# Altium footprint library PcbLib.PcbLib: 67 footprints (part 3 of 5)
Each footprint in its own frame and in the unit in brackets; x right, y up, seen from the top. Pads: shape width x height; smd on the part's side, far side on the other; paste and mask are expansions set on the pad; w line width, h text height; cw(c..) or ccw(c..) is an arc to the next point about the centre after c.
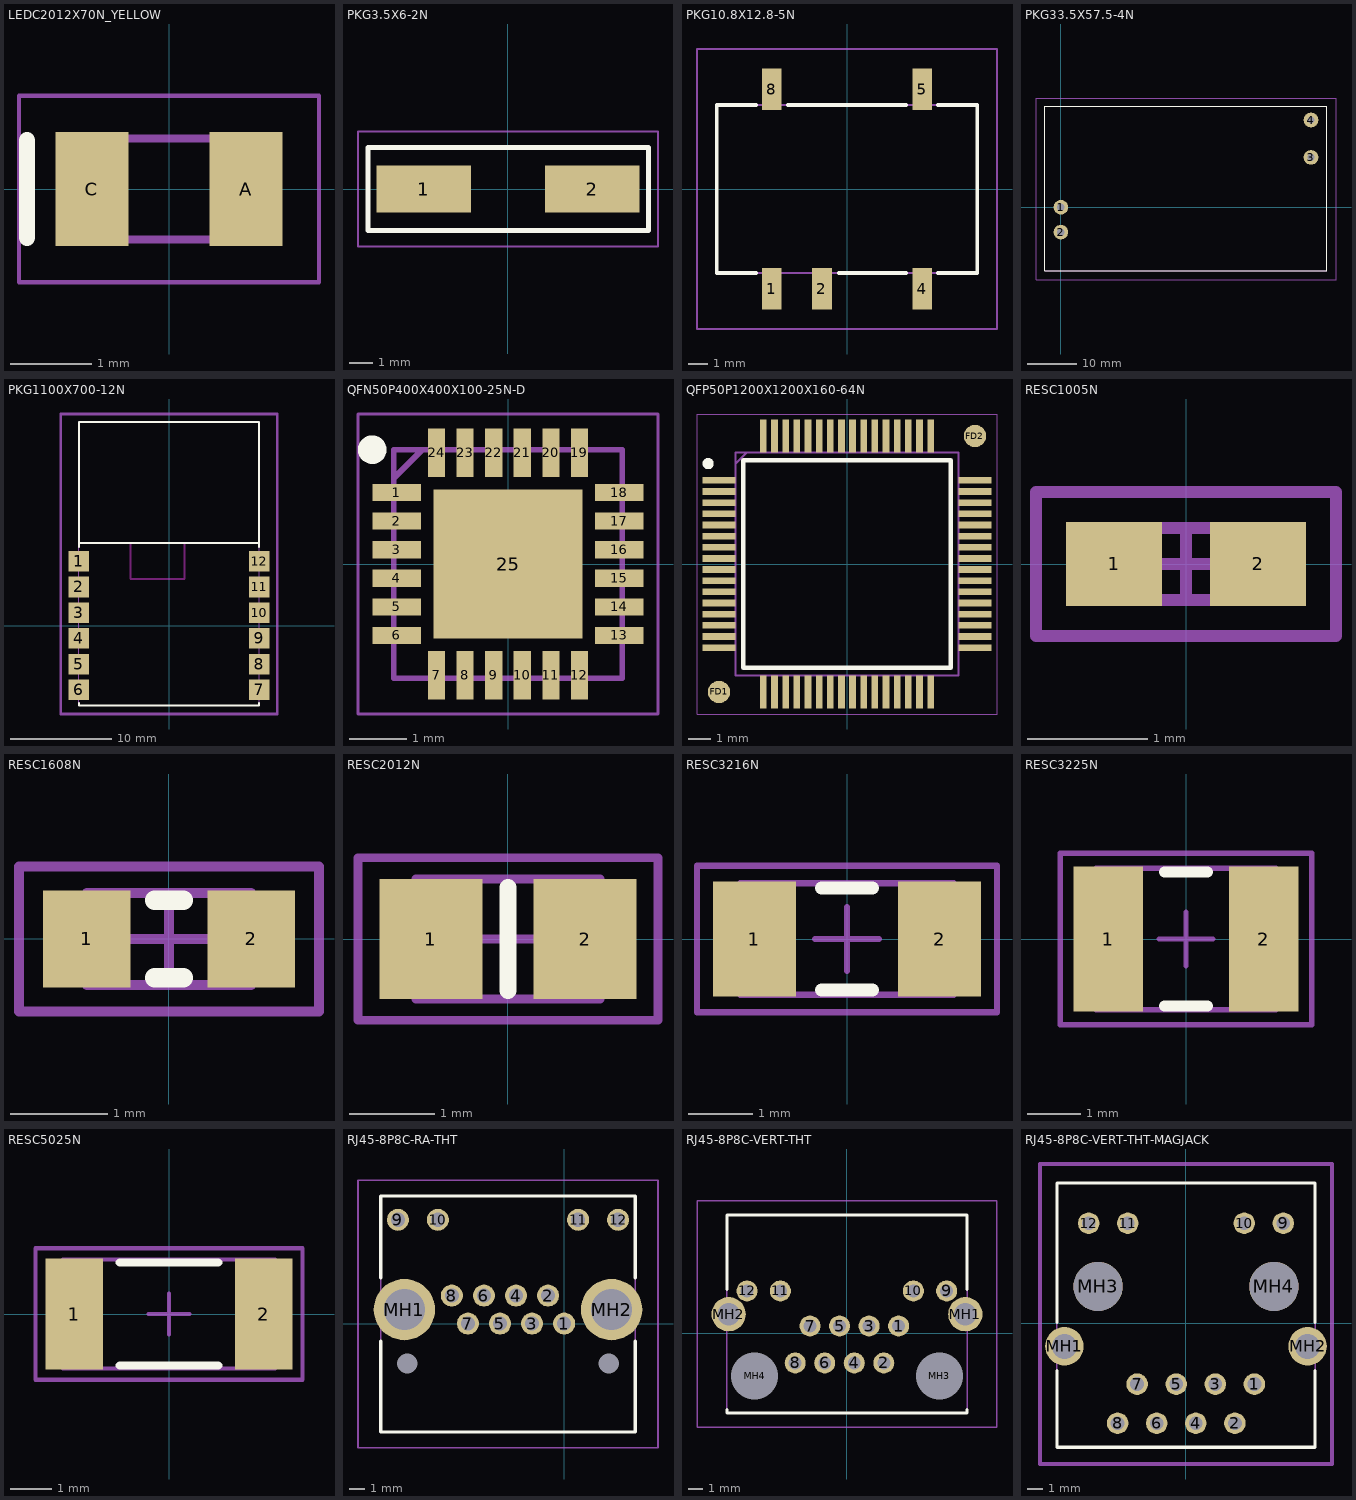
[diagram p2: the footprints below, top view; thin cyan lines are the x and y axes]

## LEDC2012X70N_YELLOW [mm]
pads (2):
  rect 0.9x1.4 smd: A(0.95,0) C(-0.95,0)
Top Overlay:
  lines w0.2: -1.75,-0.6 -1.75,0.6
Mechanical 13:
  lines w0.1: -1,0.208 -0.583,0.625 ; -1,-0.625 1,-0.625 1,0.625 -1,0.625 -1,-0.625
Mechanical 15:
  lines w0.05: -1.85,-1.15 1.85,-1.15 1.85,1.15 -1.85,1.15 -1.85,-1.15
3D body "LED-0805-Yellow.step": height 0.8, standoff -0.01, extent -1.01,-0.625 1.01,0.625

## PKG3.5X6-2N [mm]
pads (2):
  rect 4x2 smd: 1(-3.55,0) 2(3.55,0)
Top Overlay:
  lines w0.2: -5.9,-1.75 5.925,-1.75 5.925,1.75 -5.9,1.75 -5.9,-1.75
Mechanical 13:
  lines w0.1: -5.9,-1.75 5.925,-1.75 5.925,1.75 -5.9,1.75 -5.9,-1.75
Mechanical 15:
  lines w0.1: -6.325,-2.425 6.325,-2.425 6.325,2.425 -6.325,2.425 -6.325,-2.425
3D body "FSMSMTR.stp": height 4.41, standoff -0.01, extent -4.985,-1.75 4.985,1.75

## PKG10.8X12.8-5N [mm] "DC/DC Converters 24Vin 5Vout 2W 3kV"
height 6.9
pads (5):
  rect 1x2.1 smd: 1(-3.81,-5.05) 2(-1.27,-5.05) 4(3.81,-5.05) 5(3.81,5.05) 8(-3.81,5.05)
Top Overlay:
  lines w0.2: -4.6,-4.25 -6.6,-4.25 -6.6,4.25 -4.6,4.25 ; -3,4.25 3,4.25 ; -0.4,-4.25 3,-4.25 ; 4.6,-4.25 6.6,-4.25 6.6,4.25 4.6,4.25
Mechanical 13:
  lines w0.1: -6.6,-4.25 -6.6,4.25 6.6,4.25 6.6,-4.25 -6.6,-4.25
Mechanical 15:
  lines w0.1: -7.6,-7.1 -7.6,7.1 7.6,7.1 7.6,-7.1 -7.6,-7.1
3D body "1769405341.stp": height 7.25, standoff 0, extent -6.6,-5.702 6.6,5.702

## PKG33.5X57.5-4N [mm] "50W Step Down Mini Power Supply Module Converter"
height 28
pads (4):
  round 3 hole 1.5: 1(0,0) 2(0,-5.08) 3(51,10.16) 4(51,17.78)
Top Overlay:
  lines w0.2: -3.25,-12.94 -3.25,20.56 54.25,20.56 54.25,-12.94 -3.25,-12.94
Mechanical 13:
  lines w0.1: -3.25,-12.94 -3.25,20.56 54.25,20.56 54.25,-12.94 -3.25,-12.94
Mechanical 15:
  lines w0.254: -5.075,-14.825 56.1,-14.825 56.1,22.25 -5.075,22.25 -5.075,-14.825
3D body "User Library-hilink40M-1.STEP": height 22.51, standoff -5, extent -3.25,-12.94 54.25,20.56

## PKG1100X700-12N [mil]
pads (12):
  rect 80x80 smd: 1(-350,250) 2(-350,150) 3(-350,50) 4(-350,-50) 5(-350,-150) 6(-350,-250) 7(350,-250) 8(350,-150) 9(350,-50) 10(350,50) 11(350,150) 12(350,250)
Top Overlay:
  lines w7.87: -350,-301 -350,-310 350,-310 350,-301 ; -350,305 -350,320 ; 350,305 350,320 ; -350,320 -350,790 350,790 350,320 ; -350,320 350,320
Keep-Out Layer:
  lines w7.87: -150,180 -150,320 60,320 60,180 -150,180
Mechanical 13:
  lines w3.94: -350,-310 350,-310 350,790 -350,790 -350,-310
Mechanical 15:
  lines w10: -420.77,-343.5 -420.77,821.85 420.77,821.85 420.77,-343.5 -420.77,-343.5
3D body "MRF24J40MA-I_RM.stp": height 67.98, standoff 0.66, extent -350,-310 350,790

## QFN50P400X400X100-25N-D [mm]
pads (25):
  rect 0.85x0.3 smd: 1(-1.95,1.25) 2(-1.95,0.75) 3(-1.95,0.25) 4(-1.95,-0.25) 5(-1.95,-0.75) 6(-1.95,-1.25) 13(1.95,-1.25) 14(1.95,-0.75) 15(1.95,-0.25) 16(1.95,0.25) 17(1.95,0.75) 18(1.95,1.25)
  rect 0.3x0.85 smd: 7(-1.25,-1.95) 8(-0.75,-1.95) 9(-0.25,-1.95) 10(0.25,-1.95) 11(0.75,-1.95) 12(1.25,-1.95) 19(1.25,1.95) 20(0.75,1.95) 21(0.25,1.95) 22(-0.25,1.95) 23(-0.75,1.95) 24(-1.25,1.95)
  rect 2.6x2.6 smd: 25(0,0)
Top Overlay:
  circle w0.25: c-2.375,2 r0.125
Top Solder:
  rectangle: -2.475,-1.5 2.475,1.5
  rectangle: -1.475,-2.475 1.5,2.45
Mechanical 13:
  lines w0.1: -2,1.5 -1.5,2 ; -2,-2 -2,2 2,2 2,-2 -2,-2
Mechanical 15:
  lines w0.05: -2.625,-2.625 -2.625,2.625 2.625,2.625 2.625,-2.625 -2.625,-2.625
3D body "LAN8742A-CZ-TR.stp": height 1, standoff 0, extent -2.05,-2.05 2.05,2.05

## QFP50P1200X1200X160-64N [mm]
pads (66):
  rect 1.475x0.3 smd: 1(-5.738,3.75) 2(-5.738,3.25) 3(-5.738,2.75) 4(-5.738,2.25) 5(-5.738,1.75) 6(-5.738,1.25) 7(-5.738,0.75) 8(-5.738,0.25) 9(-5.738,-0.25) 10(-5.738,-0.75) 11(-5.738,-1.25) 12(-5.738,-1.75) 13(-5.738,-2.25) 14(-5.738,-2.75) 15(-5.738,-3.25) 16(-5.738,-3.75) 33(5.738,-3.75) 34(5.738,-3.25) 35(5.738,-2.75) 36(5.738,-2.25) 37(5.738,-1.75) 38(5.738,-1.25) 39(5.738,-0.75) 40(5.738,-0.25) 41(5.738,0.25) 42(5.738,0.75) 43(5.738,1.25) 44(5.738,1.75) 45(5.738,2.25) 46(5.738,2.75) 47(5.738,3.25) 48(5.738,3.75)
  rect 0.3x1.475 smd: 17(-3.75,-5.738) 18(-3.25,-5.738) 19(-2.75,-5.738) 20(-2.25,-5.738) 21(-1.75,-5.738) 22(-1.25,-5.738) 23(-0.75,-5.738) 24(-0.25,-5.738) 25(0.25,-5.738) 26(0.75,-5.738) 27(1.25,-5.738) 28(1.75,-5.738) 29(2.25,-5.738) 30(2.75,-5.738) 31(3.25,-5.738) 32(3.75,-5.738) 49(3.75,5.738) 50(3.25,5.738) 51(2.75,5.738) 52(2.25,5.738) 53(1.75,5.738) 54(1.25,5.738) 55(0.75,5.738) 56(0.25,5.738) 57(-0.25,5.738) 58(-0.75,5.738) 59(-1.25,5.738) 60(-1.75,5.738) 61(-2.25,5.738) 62(-2.75,5.738) 63(-3.25,5.738) 64(-3.75,5.738)
  round 1 smd mask+0.5: FD1(-5.738,-5.738) FD2(5.738,5.738)
Top Overlay:
  circle w0.25: c-6.225,4.5 r0.125
  lines w0.2: -4.65,-4.65 -4.65,4.65 4.65,4.65 4.65,-4.65 -4.65,-4.65
Top Solder:
  rectangle: -4,4.9 4,6.575
  rectangle: 4.9,-4 6.575,4
  rectangle: -4,-6.575 4,-4.9
  rectangle: -6.575,-4 -4.9,4
Mechanical 13:
  lines w0.1: -5,4.5 -4.5,5 ; -5,-5 -5,5 5,5 5,-5 -5,-5
Mechanical 15:
  lines w0.05: -6.725,-6.725 -6.725,6.725 6.725,6.725 6.725,-6.725 -6.725,-6.725
3D body "STM32H563RIT6.stp": height 1.6, standoff 0, extent -6,-6 6,6

## RESC1005N [mm] "Chip Resistor, Body 1.1x0.5mm, IPC Medium Density"
height 0.4
pads (2):
  rect 0.8x0.7 smd: 1(-0.6,0) 2(0.6,0)
Mechanical 13:
  lines w0.1: -0.55,-0.3 0.55,-0.3 0.55,0.3 -0.55,0.3 -0.55,-0.3
Mechanical 15:
  lines w0.1: -0.3,0 0.3,0 ; 0,-0.3 0,0.3 ; -1.25,-0.6 1.25,-0.6 1.25,0.6 -1.25,0.6 -1.25,-0.6
3D body "RC0402.stp": height 0.35, standoff 0, extent -0.5,-0.25 0.5,0.25

## RESC1608N [mm] "Chip Resistor, Body 1.6x0.8mm, IPC Medium Density"
height 0.6
pads (2):
  rect 0.9x1 smd: 1(-0.85,0) 2(0.85,0)
Top Overlay:
  lines w0.2: -0.15,-0.4 0.15,-0.4 ; -0.15,0.4 0.15,0.4
Mechanical 13:
  lines w0.1: -0.85,-0.475 -0.85,0.475 0.85,0.475 0.85,-0.475 -0.85,-0.475
Mechanical 15:
  lines w0.1: -0.475,0 0.475,0 ; 0,-0.475 0,0.475 ; -1.55,-0.75 -1.55,0.75 1.55,0.75 1.55,-0.75 -1.55,-0.75
3D body "RC0603.stp": height 0.45, standoff 0, extent -0.8,-0.4 0.8,0.4

## RESC2012N [mm] "Chip Resistor, Body 2.0x1.3mm, IPC Medium Density"
height 0.65
pads (2):
  rect 1.2x1.4 smd: 1(-0.9,0) 2(0.9,0)
Top Overlay:
  lines w0.2: 0,-0.6 0,0.6
Mechanical 13:
  lines w0.1: -1.075,-0.7 1.075,-0.7 1.075,0.7 -1.075,0.7 -1.075,-0.7
Mechanical 15:
  lines w0.1: -0.5,0 0.5,0 ; 0,-0.5 0,0.5 ; -1.75,-0.95 1.75,-0.95 1.75,0.95 -1.75,0.95 -1.75,-0.95
3D body "RC0805.stp": height 0.5, standoff 0, extent -1,-0.625 1,0.625

## RESC3216N [mm] "Chip Resistor, Body 3.2x1.6mm, IPC Medium Density"
height 0.71
pads (2):
  rect 1.3x1.8 smd: 1(-1.45,0) 2(1.45,0)
Top Overlay:
  lines w0.2: -0.4,-0.8 0.4,-0.8 ; -0.4,0.8 0.4,0.8
Mechanical 13:
  lines w0.1: -1.675,-0.875 1.675,-0.875 1.675,0.875 -1.675,0.875 -1.675,-0.875
Mechanical 15:
  lines w0.1: -0.5,0 0.5,0 ; 0,-0.5 0,0.5 ; -2.35,-1.15 2.35,-1.15 2.35,1.15 -2.35,1.15 -2.35,-1.15
3D body "RC1206.stp": height 0.55, standoff 0, extent -1.55,-0.8 1.55,0.8

## RESC3225N [mm] "Chip Resistor, Body 3.2x2.5mm, IPC Medium Density"
height 0.71
pads (2):
  rect 1.3x2.7 smd: 1(-1.45,0) 2(1.45,0)
Top Overlay:
  lines w0.2: -0.4,-1.25 0.4,-1.25 ; -0.4,1.25 0.4,1.25
Mechanical 13:
  lines w0.1: -1.675,-1.32 1.675,-1.32 1.675,1.32 -1.675,1.32 -1.675,-1.32
Mechanical 15:
  lines w0.1: -0.5,0 0.5,0 ; 0,-0.5 0,0.5 ; -2.35,-1.6 2.35,-1.6 2.35,1.6 -2.35,1.6 -2.35,-1.6
3D body "RC1210.stp": height 0.55, standoff 0, extent -1.55,-1.3 1.55,1.3

## RESC5025N [mm] "Chip Resistor, Body 5.0x2.5mm, IPC Medium Density"
height 0.71
pads (2):
  rect 1.4x2.7 smd: 1(-2.3,0) 2(2.3,0)
Top Overlay:
  lines w0.2: -1.2,-1.25 1.2,-1.25 ; -1.2,1.25 1.2,1.25
Mechanical 13:
  lines w0.1: -2.575,-1.325 -2.575,1.325 2.575,1.325 2.575,-1.325 -2.575,-1.325
Mechanical 15:
  lines w0.1: -0.5,0 0.5,0 ; 0,-0.5 0,0.5 ; -3.25,-1.6 -3.25,1.6 3.25,1.6 3.25,-1.6 -3.25,-1.6
3D body "RC2010.stp": height 0.55, standoff 0, extent -2.5,-1.25 2.5,1.25

## RJ45-8P8C-RA-THT [mm]
pads (16):
  round 1.4 hole 0.9: 1(0,0) 2(-1.02,1.78) 3(-2.04,0) 4(-3.06,1.78) 5(-4.08,0) 6(-5.1,1.78) 7(-6.12,0) 8(-7.14,1.78) 9(-10.57,6.6) 10(-8.03,6.6) 11(0.89,6.6) 12(3.43,6.6)
  round 3.9 hole 2.6: MH1(-10.16,0.89) MH2(3.02,0.89)
  round 0.65 hole 1.3 unplated: MH3(-9.97,-2.54) MH4(2.83,-2.54)
Top Overlay:
  lines w0.2: -11.66,-1.11 -11.66,-6.89 4.52,-6.89 4.52,-1.11 ; -11.66,2.89 -11.66,8.11 4.52,8.11 4.52,2.89
Mechanical 13:
  lines w0.1: -11.66,-6.89 4.52,-6.89 4.52,8.11 -11.66,8.11 -11.66,-6.89
Mechanical 15:
  lines w0.1: -13.11,-7.89 5.97,-7.89 5.97,9.11 -13.11,9.11 -13.11,-7.89
3D body "1149867.stp": height 11.36, standoff -2.34, extent -11.66,-7.11 4.52,8.13

## RJ45-8P8C-VERT-THT [mm]
pads (16):
  round 1.446 hole 0.89: 1(3.55,0.51) 2(2.53,-2.03) 3(1.52,0.51) 4(0.5,-2.03) 5(-0.51,0.51) 6(-1.53,-2.03) 7(-2.54,0.51) 8(-3.56,-2.03) 9(6.85,2.92) 10(4.56,2.92) 11(-4.58,2.92) 12(-6.87,2.92)
  round 2.355 hole 1.57: MH1(8.13,1.32) MH2(-8.13,1.32)
  round 1.625 hole 3.25 unplated: MH3(6.35,-2.92) MH4(-6.35,-2.92)
Top Overlay:
  lines w0.2: -8.255,-5.46 8.255,-5.46 ; -8.255,-5.46 8.255,-5.46 ; -8.255,-5.46 -8.255,-5.24 -8.255,-5.46 ; -8.255,8.13 8.255,8.13 ; -8.255,8.13 8.255,8.13 ; -8.255,8.13 -8.255,3.01 -8.255,8.13 ; 8.255,-5.46 8.255,-5.24 8.255,-5.46 ; 8.255,8.13 8.255,3.01 8.255,8.13
Mechanical 13:
  lines w0.1: -8.255,-5.46 8.255,-5.46 8.255,8.13 -8.255,8.13 -8.255,-5.46
Mechanical 15:
  lines w0.1: -10.307,-6.46 10.308,-6.46 10.308,9.13 -10.307,9.13 -10.307,-6.46
3D body "RJHSE3381A1 Amphenol RJ45.step": height 16.38, standoff -3.68, extent -9.125,-5.464 9.163,8.1

## RJ45-8P8C-VERT-THT-MAGJACK [mm]
pads (16):
  round 1.4 hole 0.9: 1(4.445,-3.96) 2(3.175,-6.5) 3(1.905,-3.96) 4(0.635,-6.5) 5(-0.635,-3.96) 6(-1.905,-6.5) 7(-3.175,-3.96) 8(-4.445,-6.5) 9(6.325,6.5) 10(3.785,6.5) 11(-3.785,6.5) 12(-6.325,6.5)
  round 2.5 hole 1.63: MH1(-7.9,-1.5) MH2(7.9,-1.5)
  round 3.2 hole 3.2: MH3(-5.715,2.39) MH4(5.715,2.39)
Top Overlay:
  lines w0.2: -8.384,0.059 -8.384,9.109 ; -8.376,-8.062 -8.376,-3.062 ; -8.375,-8.06 8.375,-8.06 8.375,-3.06 ; -8.375,9.115 8.375,9.115 8.375,0.065
Mechanical 13:
  lines w0.1: -8.387,-8.06 -8.387,9.115 8.388,9.115 8.388,-8.06 -8.387,-8.06
Mechanical 15:
  lines w0.254: -9.5,-9.15 9.5,-9.15 9.5,10.35 -9.5,10.35 -9.5,-9.15
3D body "MGB015-1CC2B004H_rev0.1.STEP": height 16.95, standoff -3.35, extent -8.25,-7.91 8.25,8.99